# Altium schematic symbol library Logic$.SchLib: 50 symbols
Pins are listed as number, name and electrical type; pins without a type are passive.

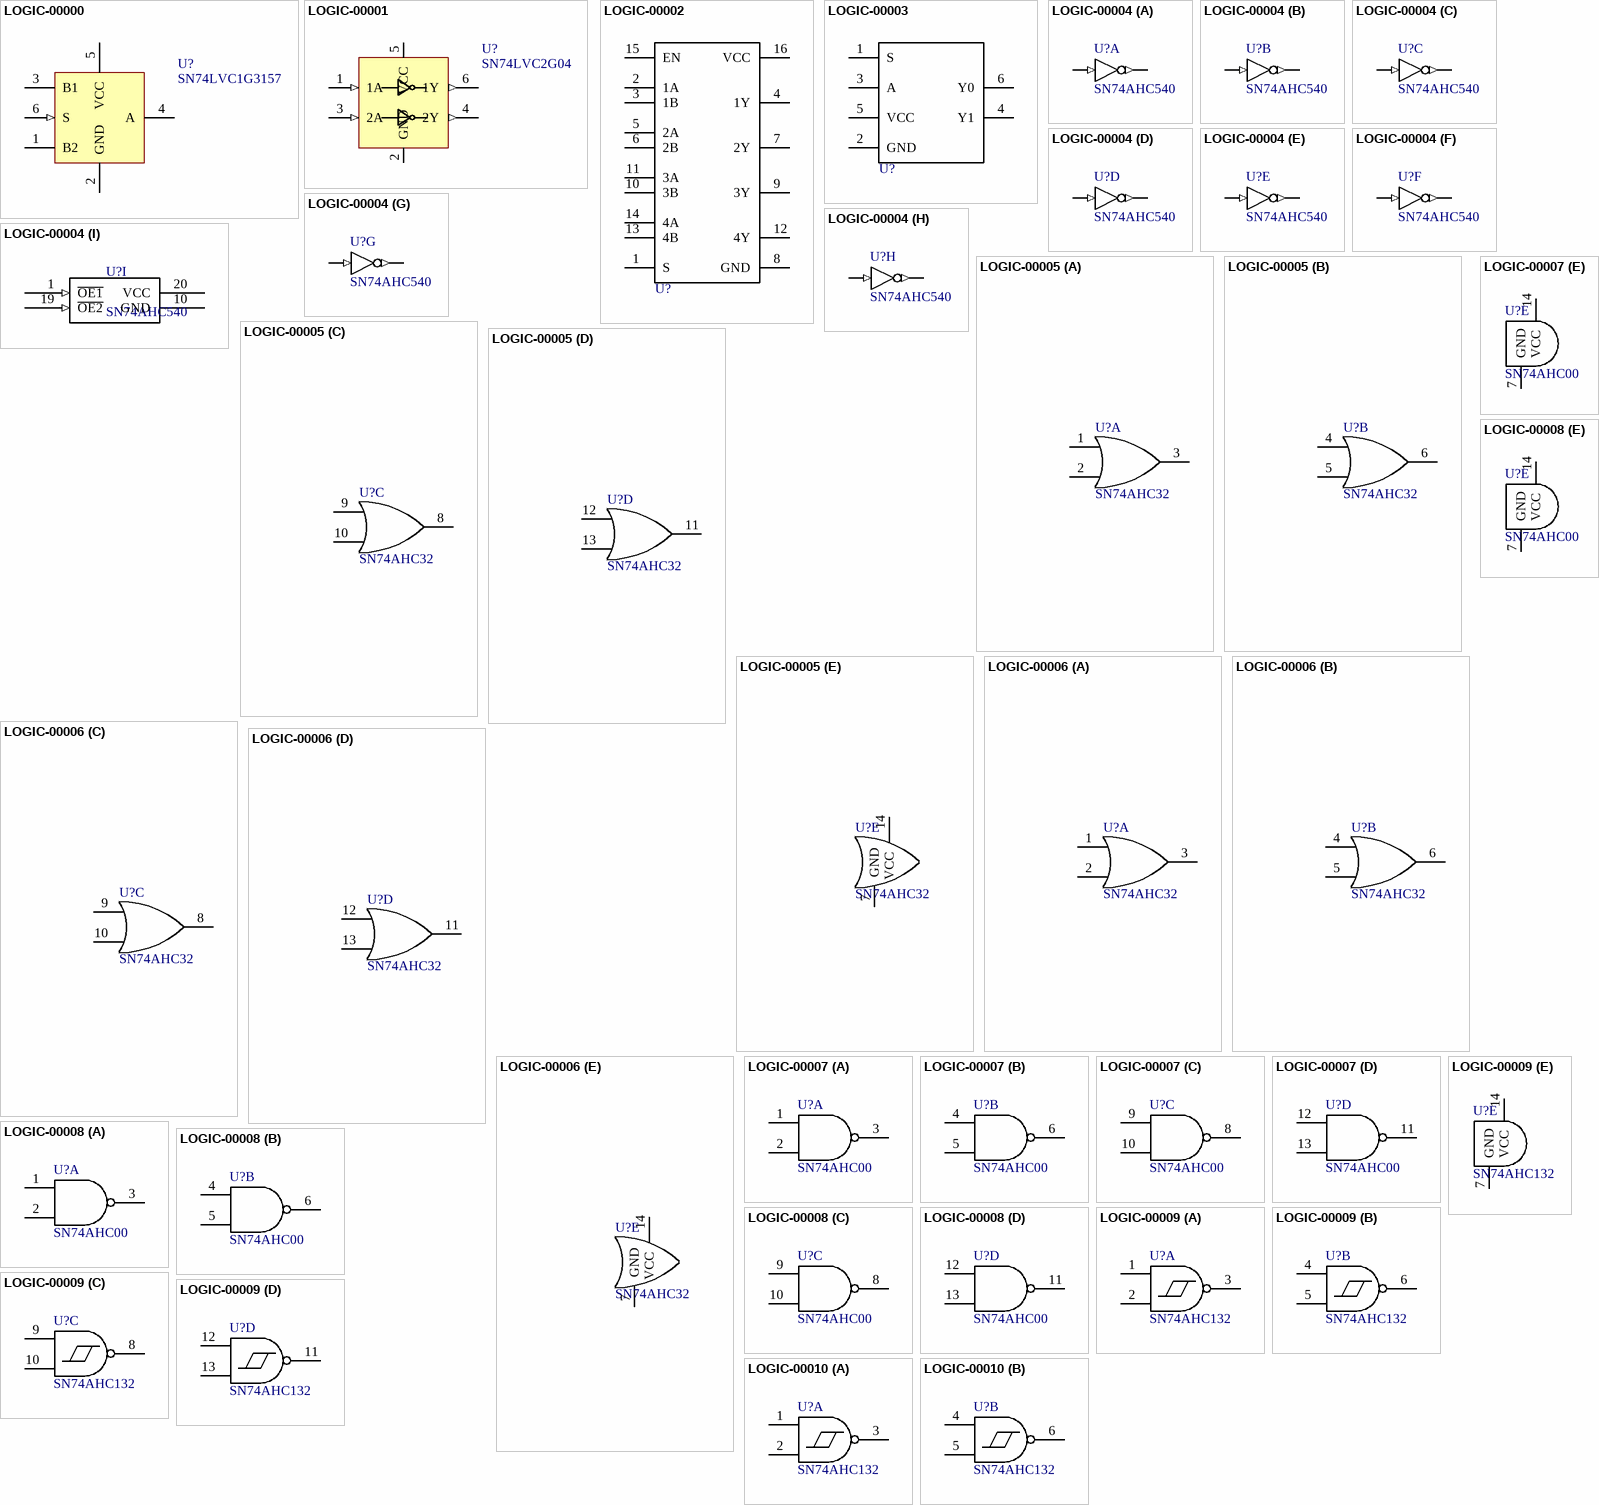
[diagram p0: symbols LOGIC-00000 to LOGIC-00010]

## LOGIC-00000
designator U?, comment SN74LVC1G3157
Mux, 2:1, sot-23-6, SN74LVC1G3157; Part Number: LOGIC-00000; Manufacturer: TI; Manufacturer PN: SN74LVC1G3157
footprint sot-23-6
pins: 1 B2, 2 GND (power), 3 B1, 4 A, 5 VCC (power), 6 S (in)

## LOGIC-00001
designator U?, comment SN74LVC2G04
Inverter, Dual, sot-23-6, SN74LVC2G04; Part Number: LOGIC-00001; Manufacturer: TI; Manufacturer PN: SN74LVC2G04; Cost: 1.01; Distributor Link: https://www.digikey.com/en/products/detail/texas-instruments/SN74LVC2G04DBVT/1592245
footprint sot-23-6
pins: 1 1A (in), 2 GND (power), 3 2A (in), 4 2Y (out), 5 VCC (power), 6 1Y (out)

## LOGIC-00002
designator U?, comment SN74LVC157APWR  (value not drawn)
Mux, 4x2:1, TSSOP-16, SN74LVC157APWR; Part Number: LOGIC-00002; Manufacturer: TI; Manufacturer PN: SN74LVC157APWR
footprint tssop-16_0
pins: 1 S, 2 1A, 3 1B, 4 1Y, 5 2A, 6 2B, 7 2Y, 8 GND, 9 3Y, 10 3B, 11 3A, 12 4Y, 13 4B, 14 4A, 15 EN, 16 VCC

## LOGIC-00003
designator U?, comment SN74LVC1G18  (value not drawn)
Demux, 1x1:2, sot-23-6, SN74LVC1G18; Part Number: LOGIC-00003; Manufacturer: TI; Manufacturer PN: SN74LVC1G18
footprint sot-23-6
pins: 1 S, 2 GND, 3 A, 4 Y1, 5 VCC, 6 Y0

## LOGIC-00004
designator U?, comment SN74AHC540
Inverter, Octal, TSSOP-20, SN74AHC540PWR; Part Number: LOGIC-00004; Manufacturer: TI; Manufacturer PN: SN74AHC540PWR
footprint tssop-20_0
part A pins: 2 A1 (in), 18 Y1 (out)
part B pins: 3 A2 (in), 17 Y2 (out)
part C pins: 4 A3 (in), 16 Y3 (out)
part D pins: 5 A4 (in), 15 Y4 (out)
part E pins: 6 A5 (in), 14 Y5 (out)
part F pins: 7 A6 (in), 13 Y6 (out)
part G pins: 8 A7 (in), 12 Y7 (out)
part H pins: 9 A8 (in), 11 Y8 (out)
part I pins: 1 ~{OE1} (in), 10 GND (power), 19 ~{OE2} (in), 20 VCC (power)

## LOGIC-00005
designator U?, comment SN74AHC32
OR gate, Quad 2-input, TSSOP-14, SN74AHC32PWR; Part Number: LOGIC-00005; Manufacturer: TI; Manufacturer PN: SN74AHC32PWR
footprint TSSOP-14_0
part A pins: 1 1A, 2 1B, 3 1Y
part B pins: 4 2A, 5 2B, 6 2Y
part C pins: 8 3Y, 9 3A, 10 3B
part D pins: 11 4Y, 12 4A, 13 4B
part E pins: 7 GND, 14 VCC

## LOGIC-00006
designator U?, comment SN74AHC32
OR gate, Quad 2-input, SOIC-14, SN74AHC32DR; Part Number: LOGIC-00006; Manufacturer: TI; Manufacturer PN: SN74AHC32DR
footprint SO-14
part A pins: 1 1A, 2 1B, 3 1Y
part B pins: 4 2A, 5 2B, 6 2Y
part C pins: 8 3Y, 9 3A, 10 3B
part D pins: 11 4Y, 12 4A, 13 4B
part E pins: 7 GND, 14 VCC

## LOGIC-00007
designator U?, comment SN74AHC00
NAND gate, Quad 2-input, TSSOP-14, SN74AHC00PWR; Part Number: LOGIC-00007; Manufacturer: TI; Manufacturer PN: SN74AHC00PWR
footprint TSSOP-14_0
part A pins: 1 1A, 2 1B, 3 1Y
part B pins: 4 2A, 5 2B, 6 2Y
part C pins: 8 3Y, 9 3A, 10 3B
part D pins: 11 4Y, 12 4A, 13 4B
part E pins: 7 GND, 14 VCC

## LOGIC-00008
designator U?, comment SN74AHC00
NAND gate, Quad 2-input, SOIC-14, SN74AHC00DR; Part Number: LOGIC-00008; Manufacturer: TI; Manufacturer PN: SN74AHC00DR
footprint SO-14
part A pins: 1 1A, 2 1B, 3 1Y
part B pins: 4 2A, 5 2B, 6 2Y
part C pins: 8 3Y, 9 3A, 10 3B
part D pins: 11 4Y, 12 4A, 13 4B
part E pins: 7 GND, 14 VCC

## LOGIC-00009
designator U?, comment SN74AHC132
NAND gate, Quad 2-input, Schmitt trig inputs, TSSOP-14, SN74AHC132PWR; Part Number: LOGIC-00009; Manufacturer: TI; Manufacturer PN: SN74AHC132PWR; Cost: 0.45
footprint TSSOP-14_0
part A pins: 1 1A, 2 1B, 3 1Y
part B pins: 4 2A, 5 2B, 6 2Y
part C pins: 8 3Y, 9 3A, 10 3B
part D pins: 11 4Y, 12 4A, 13 4B
part E pins: 7 GND, 14 VCC

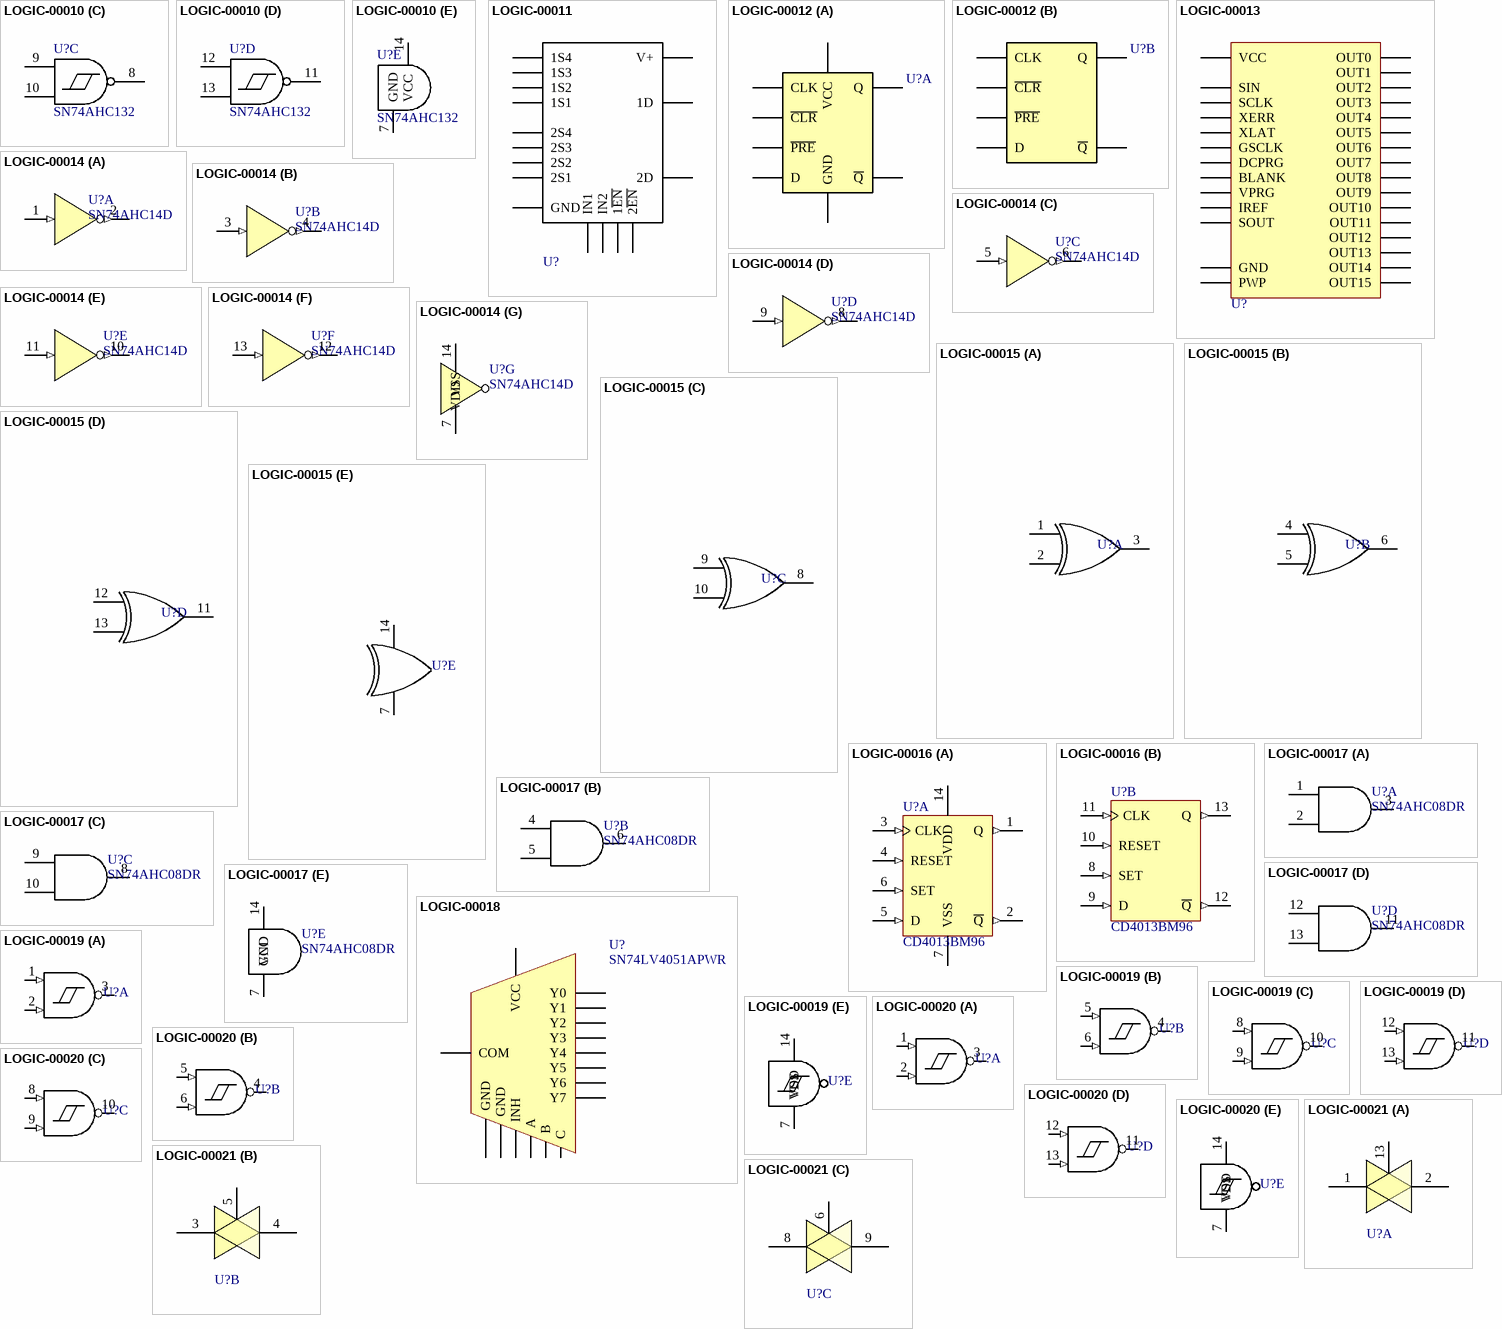
[diagram p1: symbols LOGIC-00010 to LOGIC-00021]

## LOGIC-00010
designator U?, comment SN74AHC132
NAND gate, Quad 2-input, Schmitt trig inputs, SOIC-14, SN74AHC132DR; Part Number: LOGIC-00010; Manufacturer: TI; Manufacturer PN: SN74AHC132DR
footprint SO-14
part A pins: 1 1A, 2 1B, 3 1Y
part B pins: 4 2A, 5 2B, 6 2Y
part C pins: 8 3Y, 9 3A, 10 3B
part D pins: 11 4Y, 12 4A, 13 4B
part E pins: 7 GND, 14 VCC

## LOGIC-00011
designator U?, comment TS3A5017  (value not drawn)
Mux/Demux, 2x4:1, TSSOP-16, TS3A5017PWR; Part Number: LOGIC-00011; Manufacturer: TI; Manufacturer PN: TS3A5017PWR; Cost: 0.84
footprint TSSOP-16_0_1
pins: 1 1~{EN}, 2 IN2, 3 1S4, 4 1S3, 5 1S2, 6 1S1, 7 1D, 8 GND, 9 2D, 10 2S1, 11 2S2, 12 2S3, 13 2S4, 14 IN1, 15 2~{EN}, 16 V+

## LOGIC-00012
designator U?, comment SN74LVC74A  (value not drawn)
Flip-Flop, Dual D-Type, TSSOP-14, SN74LVC74APWRG4; Part Number: LOGIC-00012; Manufacturer: TI; Manufacturer PN: SN74LVC74APWRG4; Cost: 0.42
footprint TSSOP-14_0
part A pins: 1 ~{CLR}, 2 D, 3 CLK, 4 ~{PRE}, 5 Q, 6 ~{Q}, 7 GND, 14 VCC
part B pins: 8 ~{Q}, 9 Q, 10 ~{PRE}, 11 CLK, 12 D, 13 ~{CLR}

## LOGIC-00013
designator U?, comment TLC5940  (value not drawn)
IC, LED Driver, 16-Channel, HTSSOP-28, TLC5940PWPR; Part Number: LOGIC-00013; Manufacturer: TI; Manufacturer PN: TLC5940PWPR; Cost: 2.87
footprint HTSSOP-28_PPAD
pins: 1 GND, 2 BLANK, 3 XLAT, 4 SCLK, 5 SIN, 6 VPRG, 7 OUT0, 8 OUT1, 9 OUT2, 10 OUT3, 11 OUT4, 12 OUT5, 13 OUT6, 14 OUT7, 15 OUT8, 16 OUT9, 17 OUT10, 18 OUT11, 19 OUT12, 20 OUT13, 21 OUT14, 22 OUT15, 23 XERR, 24 SOUT, 25 GSCLK, 26 DCPRG, 27 IREF, 28 VCC, 29 PWP

## LOGIC-00014
designator U?, comment SN74AHC14D
IC, Inverter, Hex, Schmitt Triggered Inputs, SOIC-14, SN74ACH14D; Part Number: LOGIC-00014; Manufacturer: TI; Manufacturer PN: SN74AHC14D; Cost: 0.41
footprint SO-14
part A pins: 1 A (in), 2 ~{A} (out)
part B pins: 3 B (in), 4 ~{B} (out)
part C pins: 5 C (in), 6 ~{C} (out)
part D pins: 8 J (out), 9 D (in)
part E pins: 10 K (out), 11 E (in)
part F pins: 12 L (out), 13 F (in)
part G pins: 7 VSS (power), 14 VDD (power)

## LOGIC-00015
designator U?, comment HC86  (value not drawn)
IC, XOR gate, Quad 2-Input, SOIC-14, SN74AHC86DR; Part Number: LOGIC-00015; Manufacturer: TI; Manufacturer PN: SN74AHC86DR
footprint SO-14
part A pins: 1 1A, 2 1B, 3 1Y
part B pins: 4 2A, 5 2B, 6 2Y
part C pins: 8 3Y, 9 3A, 10 3B
part D pins: 11 4Y, 12 4A, 13 4B
part E pins: 7 GND, 14 VCC

## LOGIC-00016
designator U?, comment CD4013BM96
IC, Flip-Flop, Dual D-Type, SOIC-14, CD4013; Part Number: LOGIC-00016; Manufacturer: TI; Manufacturer PN: CD4013BM96; Cost: 0.42
footprint SO-14
part A pins: 1 Q (out), 2 ~{Q} (out), 3 CLK (in), 4 RESET (in), 5 D (in), 6 SET (in), 7 VSS (power), 14 VDD (power)
part B pins: 8 SET (in), 9 D (in), 10 RESET (in), 11 CLK (in), 12 ~{Q} (out), 13 Q (out)

## LOGIC-00017
designator U?, comment SN74AHC08DR
IC, AND gate, Quad 2-input, SOIC-14, SN74AHC08DR; Part Number: LOGIC-00017; Manufacturer: TI; Manufacturer PN: SN74AHC08DR; Cost: 0.48
footprint SO-14
part A pins: 1 1A, 2 1B, 3 1Y
part B pins: 4 2A, 5 1B, 6 2Y
part C pins: 8 3Y, 9 3A, 10 3B
part D pins: 11 4Y, 12 4A, 13 4B
part E pins: 7 GND, 14 VCC

## LOGIC-00018
designator U?, comment SN74LV4051APWR
IC, Analog Mux/Demux, 8:1, TSSOP-16, SN74LV4051; Part Number: LOGIC-00018; Manufacturer: TI; Manufacturer PN: SN74LV4051APWR; Cost: 0.42
footprint TSSOP-16_0_1
pins: 1 Y4, 2 Y6, 3 COM, 4 Y7, 5 Y5, 6 INH, 7 GND, 8 GND, 9 C, 10 B, 11 A, 12 Y3, 13 Y0, 14 Y1, 15 Y2, 16 VCC

## LOGIC-00019
designator U?, comment 4093  (value not drawn)
IC, NAND Gate, Quad 2-Input, Schmitt Trigger, SOIC-14, CD4093; Part Number: LOGIC-00019; Manufacturer: TI; Manufacturer PN: CD4093BM96; Cost: 0.42
footprint SO-14
part A pins: 1 A (in), 2 B (in), 3 J
part B pins: 4 K, 5 C (in), 6 D (in)
part C pins: 8 E (in), 9 F (in), 10 L
part D pins: 11 M, 12 G (in), 13 H (in)
part E pins: 7 VSS (power), 14 VDD (power)

## LOGIC-00020
designator U?, comment 4093  (value not drawn)
IC, NAND Gate, Quad 2-Input, Schmitt Trigger, DIP-14, CD4093; Part Number: LOGIC-00020; Manufacturer: TI; Manufacturer PN: CD4093BE; Cost: 0.49
footprint DIP14
part A pins: 1 A (in), 2 B (in), 3 J
part B pins: 4 K, 5 C (in), 6 D (in)
part C pins: 8 E (in), 9 F (in), 10 L
part D pins: 11 M, 12 G (in), 13 H (in)
part E pins: 7 VSS (power), 14 VDD (power)

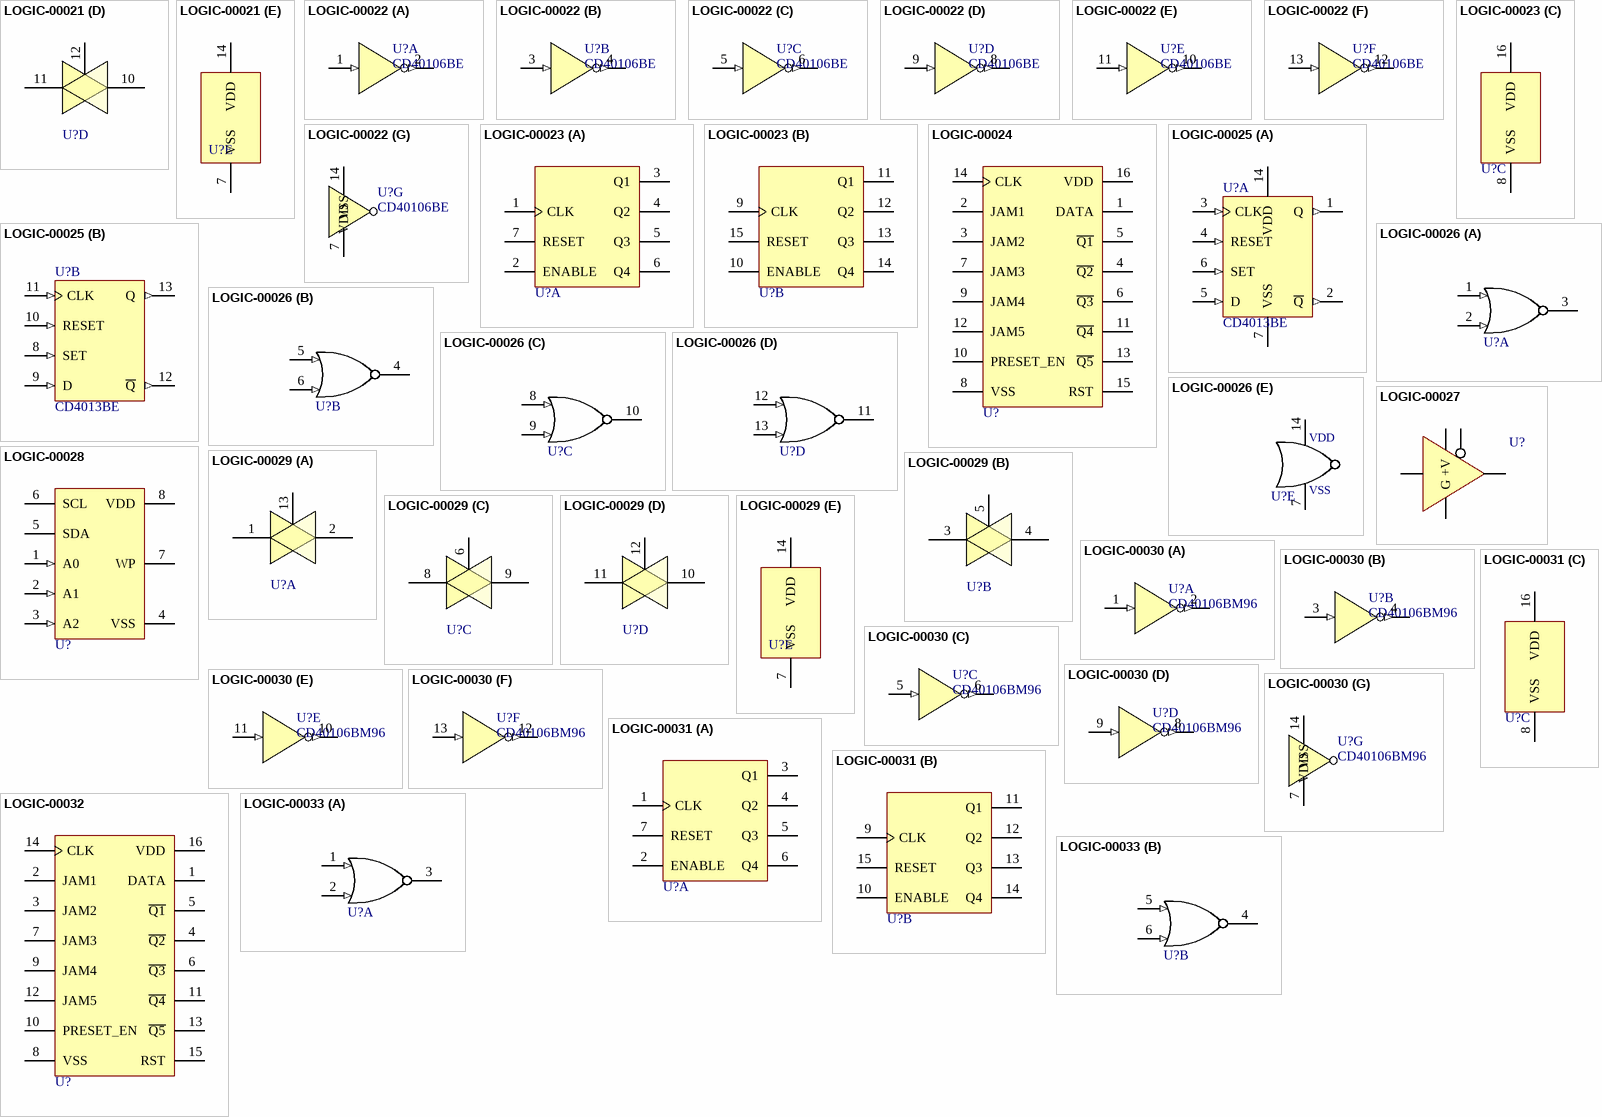
[diagram p2: symbols LOGIC-00021 to LOGIC-00033]

## LOGIC-00021
designator U?, comment 4066  (value not drawn)
IC, Quad Bilateral Switch, DIP-14, CD4066B; Part Number: LOGIC-00021; Manufacturer: TI; Manufacturer PN: CD4066BE; Cost: 0.49
footprint DIP14
part A pins: 1 IN/OUT, 2 OUT/IN, 13 CONTA
part B pins: 3 IN/OUT, 4 OUT/IN, 5 CONTB
part C pins: 6 CONTC, 8 IN/OUT, 9 OUT/IN
part D pins: 10 OUT/IN, 11 IN/OUT, 12 CONTD
part E pins: 7 VSS, 14 VDD

## LOGIC-00022
designator U?, comment CD40106BE
IC, Hex Inverter, Schmitt Triggered Inputs, DIP-14, CD40106; Part Number: LOGIC-00022; Manufacturer: TI; Manufacturer PN: CD40106BE; Cost: 0.51
footprint DIP14
part A pins: 1 A (in), 2 ~{A} (out)
part B pins: 3 B (in), 4 ~{B} (out)
part C pins: 5 C (in), 6 ~{C} (out)
part D pins: 8 J (out), 9 D (in)
part E pins: 10 K (out), 11 E (in)
part F pins: 12 L (out), 13 F (in)
part G pins: 7 VSS (power), 14 VDD (power)

## LOGIC-00023
designator U?, comment 4518  (value not drawn)
IC, Dual Up-Down Counter, DIP-16, CD4518; Part Number: LOGIC-00023; Manufacturer: TI; Manufacturer PN: CD4518BE
footprint DIP16
part A pins: 1 CLK, 2 ENABLE, 3 Q1, 4 Q2, 5 Q3, 6 Q4, 7 RESET
part B pins: 9 CLK, 10 ENABLE, 11 Q1, 12 Q2, 13 Q3, 14 Q4, 15 RESET
part C pins: 8 VSS, 16 VDD

## LOGIC-00024
designator U?, comment 4018  (value not drawn)
IC, Divide-by-N-Counter, DIP-16, CD4018; Part Number: LOGIC-00024; Manufacturer: TI; Manufacturer PN: CD4018BE
footprint DIP16
pins: 1 DATA, 2 JAM1, 3 JAM2, 4 ~{Q2}, 5 ~{Q1}, 6 ~{Q3}, 7 JAM3, 8 VSS, 9 JAM4, 10 PRESET_EN, 11 ~{Q4}, 12 JAM5, 13 ~{Q5}, 14 CLK, 15 RST, 16 VDD

## LOGIC-00025
designator U?, comment CD4013BE
IC, Flip-Flop, Dual D-Type,  DIP-14, CD4013; Part Number: LOGIC-00025; Manufacturer: TI; Manufacturer PN: CD4013BE
footprint DIP14
part A pins: 1 Q (out), 2 ~{Q} (out), 3 CLK (in), 4 RESET (in), 5 D (in), 6 SET (in), 7 VSS (power), 14 VDD (power)
part B pins: 8 SET (in), 9 D (in), 10 RESET (in), 11 CLK (in), 12 ~{Q} (out), 13 Q (out)

## LOGIC-00026
designator U?, comment 4001  (value not drawn)
IC, NOR gate, Quad 2-input, DIP-14, CD4001; Part Number: LOGIC-00026; Manufacturer: TI; Manufacturer PN: CD4001BE
footprint DIP14
part A pins: 1 A (in), 2 B (in), 3 J
part B pins: 4 K, 5 C (in), 6 D (in)
part C pins: 8 E (in), 9 F (in), 10 L
part D pins: 11 M, 12 G (in), 13 H (in)
part E pins: 7 VSS, 14 VDD

## LOGIC-00027
designator U?, comment SN74AHCT1G125  (value not drawn)
Tri-State Buffer, Single, 2-5.5V, SOT-23-5, SN74AHC1G125; Part Number: LOGIC-00027; Manufacturer: TI; Manufacturer PN: SN74AHC1G125DBVR; Cost: 0.33
footprint sot-23-5
pins: 1 ~{OE}, 2 A, 3 G, 4 Y, 5 +V

## LOGIC-00028
designator U?, comment 24AA01  (value not drawn)
EEPROM, 1K-bit, I2C, 400kHz, 24AA01, 8-SOIC; Part Number: LOGIC-00028; Manufacturer: Microchip; Manufacturer PN: 24AA01-I/SN; Cost: 0.2
footprint SO-8
pins: 1 A0 (in), 2 A1 (in), 3 A2 (in), 4 VSS (power), 5 SDA (oc), 6 SCL (oc), 7 WP, 8 VDD (power)

## LOGIC-00029
designator U?, comment 4066  (value not drawn)
IC, Quad Bilateral Switch, SOIC-14, CD4066B; Part Number: LOGIC-00029; Manufacturer: TI; Manufacturer PN: CD4066BM96
footprint SO-14
part A pins: 1 IN/OUT, 2 OUT/IN, 13 CONTA
part B pins: 3 IN/OUT, 4 OUT/IN, 5 CONTB
part C pins: 6 CONTC, 8 IN/OUT, 9 OUT/IN
part D pins: 10 OUT/IN, 11 IN/OUT, 12 CONTD
part E pins: 7 VSS, 14 VDD

## LOGIC-00030
designator U?, comment CD40106BM96
IC, Hex Inverter, Schmitt Triggered Inputs, SOIC-14, CD40106; Part Number: LOGIC-00030; Manufacturer: TI; Manufacturer PN: CD40106BM96
footprint SO-14
part A pins: 1 A (in), 2 ~{A} (out)
part B pins: 3 B (in), 4 ~{B} (out)
part C pins: 5 C (in), 6 ~{C} (out)
part D pins: 8 J (out), 9 D (in)
part E pins: 10 K (out), 11 E (in)
part F pins: 12 L (out), 13 F (in)
part G pins: 7 VSS (power), 14 VDD (power)

## LOGIC-00031
designator U?, comment 4518  (value not drawn)
IC, Dual Up-Down Counter, SOIC-16, CD4518; Part Number: LOGIC-00031; Manufacturer: TI; Manufacturer PN: CD4518BM96
footprint SO-16
part A pins: 1 CLK, 2 ENABLE, 3 Q1, 4 Q2, 5 Q3, 6 Q4, 7 RESET
part B pins: 9 CLK, 10 ENABLE, 11 Q1, 12 Q2, 13 Q3, 14 Q4, 15 RESET
part C pins: 8 VSS, 16 VDD

## LOGIC-00032
designator U?, comment 4018  (value not drawn)
IC, Divide-by-N-Counter, SOIC-16, CD4018; Part Number: LOGIC-00032; Manufacturer: TI; Manufacturer PN: CD4018BM96
footprint SO-16
pins: 1 DATA, 2 JAM1, 3 JAM2, 4 ~{Q2}, 5 ~{Q1}, 6 ~{Q3}, 7 JAM3, 8 VSS, 9 JAM4, 10 PRESET_EN, 11 ~{Q4}, 12 JAM5, 13 ~{Q5}, 14 CLK, 15 RST, 16 VDD

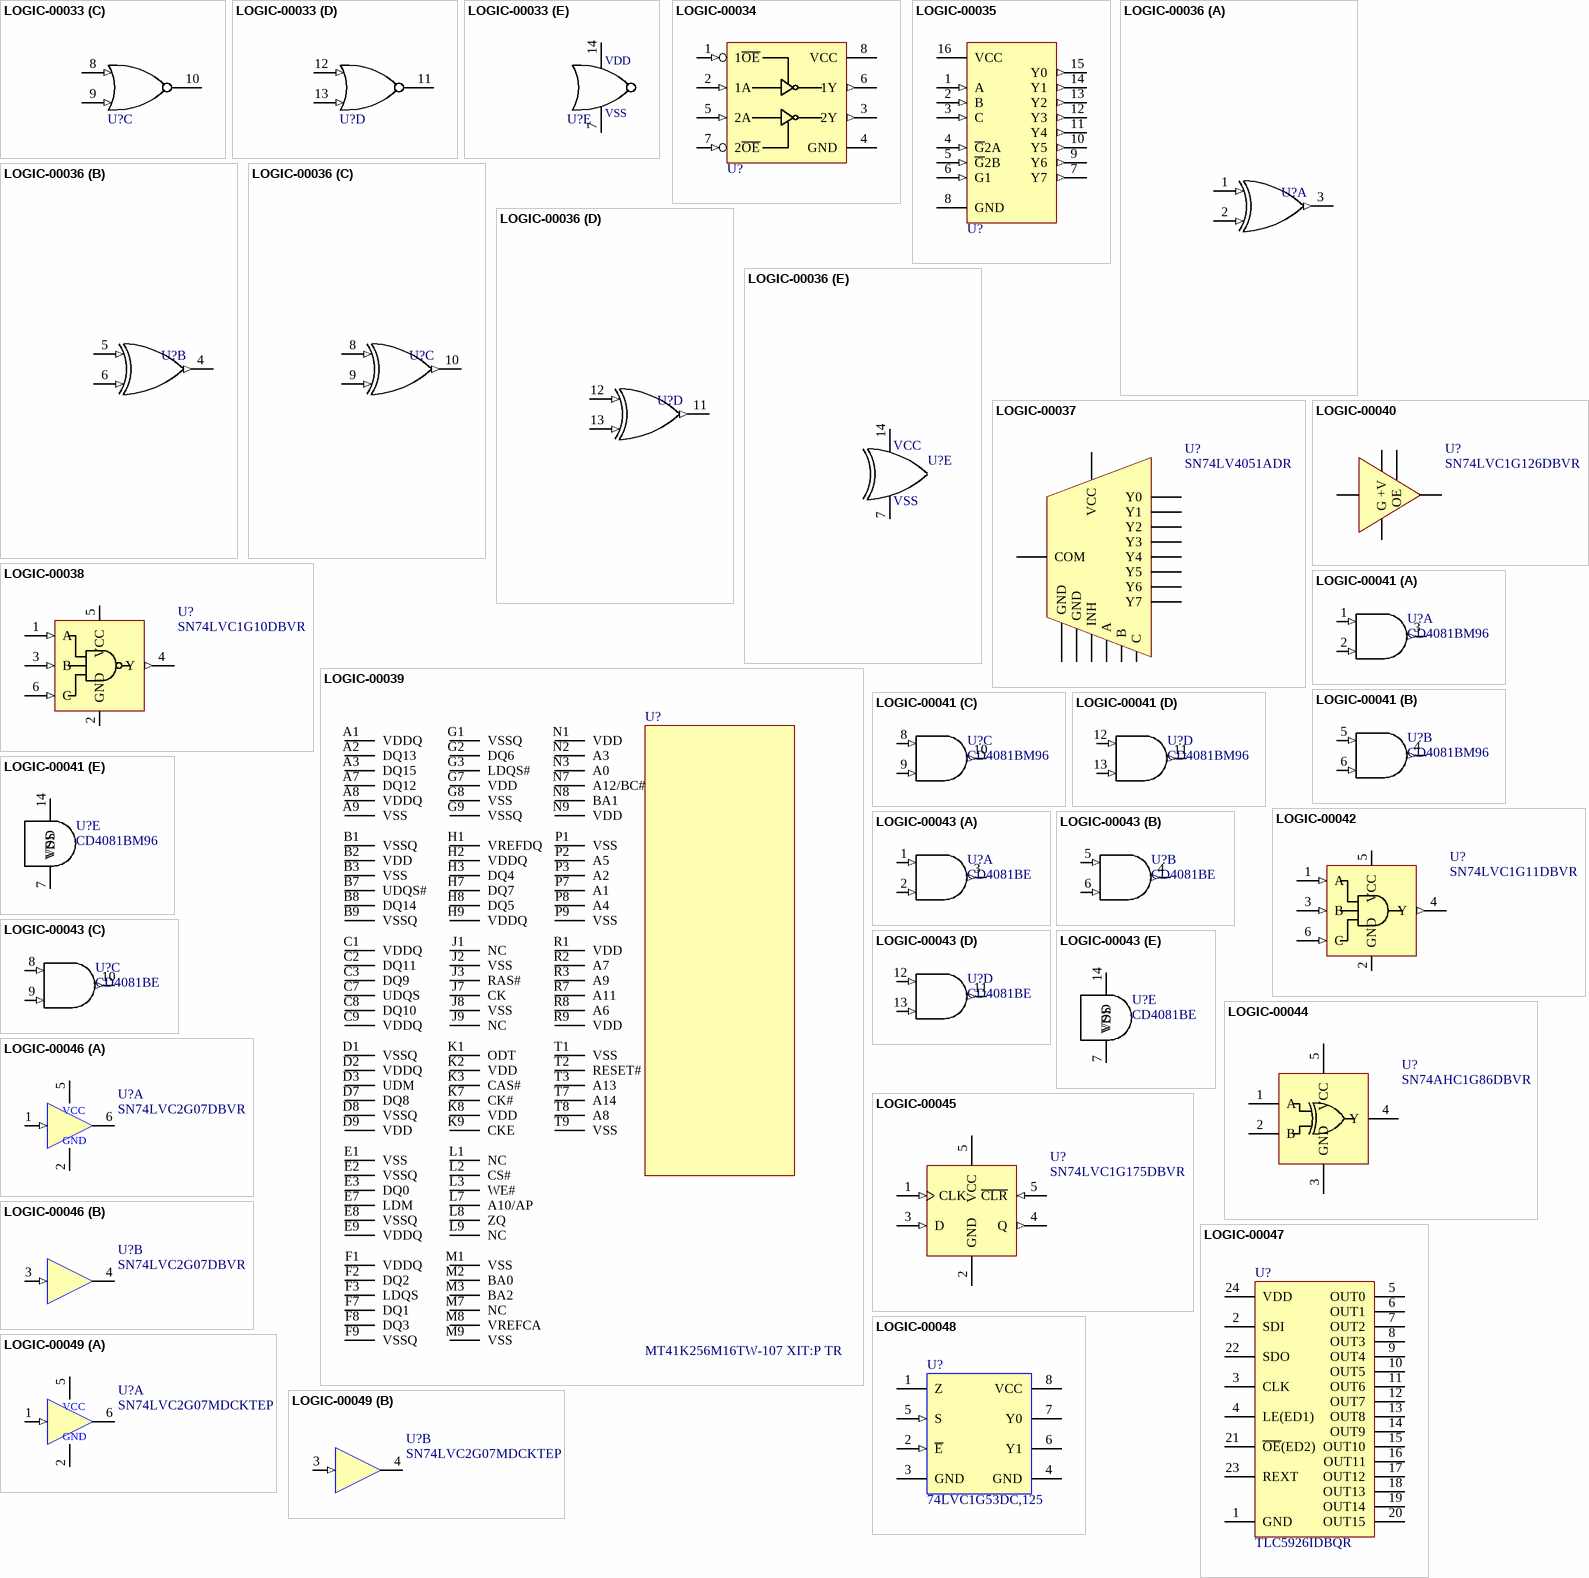
[diagram p3: symbols LOGIC-00033 to LOGIC-00049]

## LOGIC-00033
designator U?, comment 4001  (value not drawn)
IC, NOR gate, Quad 2-input, SOIC-14, CD4001; Part Number: LOGIC-00033; Manufacturer: TI; Manufacturer PN: CD4001BM96
footprint SO-14
part A pins: 1 A (in), 2 B (in), 3 J
part B pins: 4 K, 5 C (in), 6 D (in)
part C pins: 8 E (in), 9 F (in), 10 L
part D pins: 11 M, 12 G (in), 13 H (in)
part E pins: 7 VSS, 14 VDD

## LOGIC-00034
designator U?, comment SN74LVC2G240  (value not drawn)
IC, Dual Tri-State Inverter, 1.65-5.5V, 8-VSSOP; Part Number: LOGIC-00034; Manufacturer: TI; Manufacturer PN: SN74LVC2G240DCUR
footprint VSSOP-8_0
pins: 1 1~{OE} (in), 2 1A (in), 3 2Y (out), 4 GND (power), 5 2A (in), 6 1Y (out), 7 2~{OE} (in), 8 VCC (power)

## LOGIC-00035
designator U?, comment 74HC138  (value not drawn)
IC, 3:8 Decoder/Demux, SOIC-16, 2V-6V; Part Number: LOGIC-00035; Manufacturer: TI; Manufacturer PN: SN74HC138DR; Cost: 0.37
footprint SO-16
pins: 1 A (in), 2 B (in), 3 C (in), 4 ~{G}2A (in), 5 ~{G}2B (in), 6 G1 (in), 7 Y7 (out), 8 GND (power), 9 Y6 (out), 10 Y5 (out), 11 Y4 (out), 12 Y3 (out), 13 Y2 (out), 14 Y1 (out), 15 Y0 (out), 16 VCC (power)

## LOGIC-00036
designator U?, comment 4070  (value not drawn)
IC, XOR, Quad 2-Input, SOIC-14, CD4070; Part Number: LOGIC-00036; Manufacturer: TI; Manufacturer PN: CD4070BM96; Cost: 0.46
footprint SO-14
part A pins: 1 1A (in), 2 1B (in), 3 1Y (out)
part B pins: 4 2Y (out), 5 2A (in), 6 2B (in)
part C pins: 8 3A (in), 9 3B (in), 10 3Y (out)
part D pins: 11 4Y (out), 12 4A (in), 13 4B (in)
part E pins: 7 GND (power), 14 VCC (power)
part E text: VSS

## LOGIC-00037
designator U?, comment SN74LV4051ADR
IC, Analog Mux/Demux, 8:1, SOIC-16, SN74LV4051; Part Number: LOGIC-00037; Manufacturer: TI; Manufacturer PN: SN74LV4051ADR; Cost: 0.39
footprint SO-16
pins: 1 Y4, 2 Y6, 3 COM, 4 Y7, 5 Y5, 6 INH, 7 GND, 8 GND, 9 C, 10 B, 11 A, 12 Y3, 13 Y0, 14 Y1, 15 Y2, 16 VCC

## LOGIC-00038
designator U?, comment SN74LVC1G10DBVR
IC, NAND, Single 3-Input, 1.65-5.5V, SOT-23-6; Part Number: LOGIC-00038; Manufacturer: TI; Manufacturer PN: SN74LVC1G10DBVR; Cost: 0.37
footprint sot-23-6
pins: 1 A (in), 2 GND (power), 3 B (in), 4 Y (out), 5 VCC (power), 6 C (in)

## LOGIC-00039
designator U?, comment MT41K256M16TW-107 XIT:P TR
IC, DRAM 4Gb Parallel 96-FBGA; Part Number: LOGIC-00039; Manufacturer: Micron; Manufacturer PN: MT41K256M16TW-107 XIT:P TR; Cost: 8.19
footprint 96-FBGA-MICRON
pins: A1 VDDQ, A2 DQ13, A3 DQ15, A7 DQ12, A8 VDDQ, A9 VSS, B1 VSSQ, B2 VDD, B3 VSS, B7 UDQS#, B8 DQ14, B9 VSSQ, C1 VDDQ, C2 DQ11, C3 DQ9, C7 UDQS, C8 DQ10, C9 VDDQ, D1 VSSQ, D2 VDDQ, D3 UDM, D7 DQ8, D8 VSSQ, D9 VDD, E1 VSS, E2 VSSQ, E3 DQ0, E7 LDM, E8 VSSQ, E9 VDDQ, F1 VDDQ, F2 DQ2, F3 LDQS, F7 DQ1, F8 DQ3, F9 VSSQ, G1 VSSQ, G2 DQ6, G3 LDQS#, G7 VDD, G8 VSS, G9 VSSQ, H1 VREFDQ, H2 VDDQ, H3 DQ4, H7 DQ7, H8 DQ5, H9 VDDQ, J1 NC, J2 VSS, J3 RAS#, J7 CK, J8 VSS, J9 NC, K1 ODT, K2 VDD, K3 CAS#, K7 CK#, K8 VDD, K9 CKE, L1 NC, L2 CS#, L3 WE#, L7 A10/AP, L8 ZQ, L9 NC, M1 VSS, M2 BA0, M3 BA2, M7 NC, M8 VREFCA, M9 VSS, N1 VDD, N2 A3, N3 A0, N7 A12/BC#, N8 BA1, N9 VDD, P1 VSS, P2 A5, P3 A2, P7 A1, P8 A4, P9 VSS, R1 VDD, R2 A7, R3 A9, R7 A11, R8 A6, R9 VDD, T1 VSS, T2 RESET#, T3 A13, T7 A14, T8 A8, T9 VSS

## LOGIC-00040
designator U?, comment SN74LVC1G126DBVR
IC, Tri-State Buffer Non-Inverting, Single, 1.65-5.5V, SOT-23-5; Part Number: LOGIC-00040; Manufacturer: TI; Manufacturer PN: SN74LVC1G126DBVR; Cost: 0.32; Distributor Link: https://www.digikey.com/en/products/detail/texas-instruments/SN74LVC1G126DBVR/385722
footprint sot-23-5
pins: 1 OE, 2 A, 3 G, 4 Y, 5 +V

## LOGIC-00041
designator U?, comment CD4081BM96
IC, AND Gate, Quad 2-input, SOIC-14, CD4081B; Part Number: LOGIC-00041; Manufacturer: TI; Manufacturer PN: CD4081BM96; Cost: 0.39
footprint SO-14
part A pins: 1 A (in), 2 B (in), 3 J (out)
part B pins: 4 K (out), 5 C (in), 6 D (in)
part C pins: 8 E (in), 9 F (in), 10 L (out)
part D pins: 11 M (out), 12 G (in), 13 H (in)
part E pins: 7 VSS (power), 14 VDD (power)

## LOGIC-00042
designator U?, comment SN74LVC1G11DBVR
IC, AND Gate, Single 3-Input, 1.65-5.5V, SOT-23-6; Part Number: LOGIC-00042; Manufacturer: TI; Manufacturer PN: SN74LVC1G11DBVR; Cost: 0.37; Distributor Link: https://www.digikey.com/en/products/detail/texas-instruments/SN74LVC1G11DBVR/637182
footprint sot-23-6
pins: 1 A (in), 2 GND (power), 3 B (in), 4 Y (out), 5 VCC (power), 6 C (in)

## LOGIC-00043
designator U?, comment CD4081BE
IC, AND Gate, Quad 2-input, DIP-14, CD4081BE; Part Number: LOGIC-00043; Manufacturer: TI; Manufacturer PN: CD4081BE; Cost: 0.4
footprint DIP14
part A pins: 1 A (in), 2 B (in), 3 J (out)
part B pins: 4 K (out), 5 C (in), 6 D (in)
part C pins: 8 E (in), 9 F (in), 10 L (out)
part D pins: 11 M (out), 12 G (in), 13 H (in)
part E pins: 7 VSS (power), 14 VDD (power)

## LOGIC-00044
designator U?, comment SN74AHC1G86DBVR
IC, XOR, Single 2-Input, 1.65~5.5V, SOT-23-5; Part Number: LOGIC-00044; Manufacturer: TI; Manufacturer PN: SN74AHC1G86DBVR; Cost: 0.3
footprint sot-23-5
pins: 1 A, 2 B, 3 GND, 4 Y, 5 VCC

## LOGIC-00045
designator U?, comment SN74LVC1G175DBVR
IC, D-Type Flip-Flop, Single w/ CLR Input, SOT-23-6; Part Number: LOGIC-00045; Manufacturer: TI; Manufacturer PN: SN74LVC1G175DBVR; Cost: 0.34
footprint sot-23-6
pins: 1 CLK (in), 2 GND (power), 3 D (in), 4 Q (out), 5 VCC (power), 5 ~{CLR} (in)

## LOGIC-00046
designator U?, comment SN74LVC2G07DBVR
IC, Buffer Non-Inverting, Dual, Open-Drain Outputs, 1.65~5.5V, SOT-23-6; Part Number: LOGIC-00046; Manufacturer: TI; Manufacturer PN: SN74LVC2G07DBVR; Cost: 0.43
footprint sot-23-6
part A pins: 1 1A (in), 2 GND (power), 5 VCC (power), 6 1Y (oc)
part B pins: 3 2A (in), 4 2Y (oc)

## LOGIC-00047
designator U?, comment TLC5926IDBQR
IC, LED Driver, 16-Channel Linear Shift Register Dimming, 24-SSOP; Part Number: LOGIC-00047; Manufacturer: TI; Manufacturer PN: TLC5926IDBQR; Cost: 1.65; Distributor Link: https://www.digikey.com/en/products/detail/texas-instruments/TLC5926IDBQR/1906422
footprint SSOP-24
pins: 1 GND, 2 SDI, 3 CLK, 4 LE(ED1), 5 OUT0, 6 OUT1, 7 OUT2, 8 OUT3, 9 OUT4, 10 OUT5, 11 OUT6, 12 OUT7, 13 OUT8, 14 OUT9, 15 OUT10, 16 OUT11, 17 OUT12, 18 OUT13, 19 OUT14, 20 OUT15, 21 ~{OE}(ED2), 22 SDO, 23 REXT, 24 VDD

## LOGIC-00048
designator U?, comment 74LVC1G53DC,125
IC, Analog Mux/Demux 2:1, 8-VSSOP; Part Number: LOGIC-00048; Manufacturer: Nexperia; Manufacturer PN: 74LVC1G53DC,125; Cost: 0.67; Distributor Link: https://www.digikey.com/en/products/detail/nexperia-usa-inc/74LVC1G53DC-125/1023284
footprint VSSOP-8_2x2.3_P0.5mm
pins: 1 Z, 2 ~{E} (in), 3 GND (power), 4 GND (power), 5 S (in), 6 Y1, 7 Y0, 8 VCC (power)

## LOGIC-00049
designator U?, comment SN74LVC2G07MDCKTEP
IC, Buffer, Non-Inverting, Open-Drain, 1.65~5.5V, SC070-6; Part Number: LOGIC-00049; Manufacturer: TI; Manufacturer PN: SN74LVC2G07MDCKTEP; Cost: 3.48; Distributor Link: https://www.digikey.com/en/products/detail/texas-instruments/SN74LVC2G07MDCKTEP/1951100
footprint SC-70-6
part A pins: 1 1A (in), 2 GND (power), 5 VCC (power), 6 1Y (oc)
part B pins: 3 2A (in), 4 2Y (oc)